# Altium schematic symbol library cSLIM-shield-rescue.SchLib: 27 symbols
Pins are listed as number, name and electrical type; pins without a type are passive.

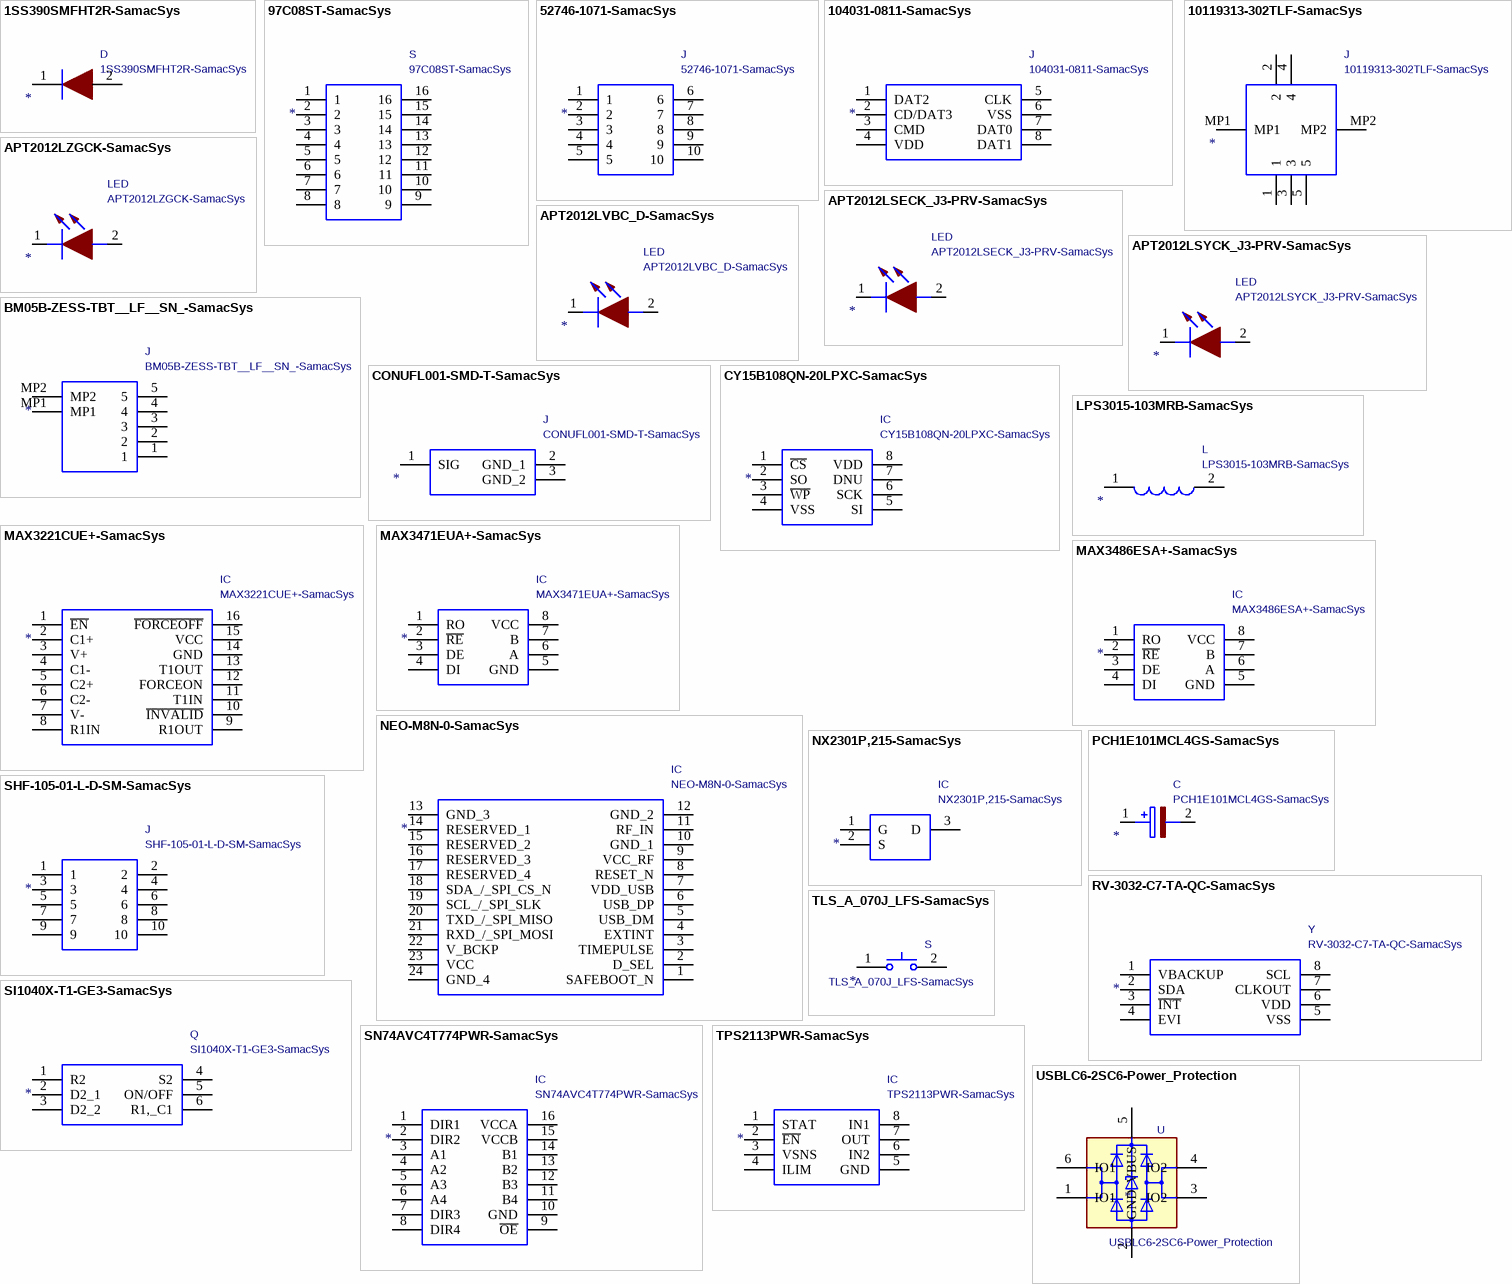
[diagram p0: symbols 1SS390SMFHT2R-SamacSys to USBLC6-2SC6-Power_Protection]

## 1SS390SMFHT2R-SamacSys
designator D  value 1SS390SMFHT2R-SamacSys
Diodes - General Purpose, Power, Switching Band Switching Diode EMD2; Manufacturer_Name: ROHM Semiconductor; Manufacturer_Part_Number: 1SS390SMFHT2R; Footprint: SODFL1608X70N; Supplier: https://componentsearchengine.com/Datasheets/2/1SS390SMFHT2R.pdf; Description_: Diodes - General Purpose, Power, Switching Band Switching Diode EMD2; Height: 0.7; Mouser Part Number: 755-1SS390SMFHT2R; Mouser Price/Stock: https://www.mouser.co.uk/ProductDetail/ROHM-Semiconductor/1SS390SMFHT2R?qs=0lSvoLzn4L%2FO2HkvK5CJsQ%3D%3D
footprint SODFL1608X70N
pins: 1, 2

## 97C08ST-SamacSys
designator S  value 97C08ST-SamacSys
8 Way Surface Mount Slide Switch SPST; Manufacturer_Name: Grayhill; Manufacturer_Part_Number: 97C08ST; Footprint: SOIC127P671X170-16N; Supplier: http://www.grayhill.com/search/?Keywords=97C08ST; Description_: 8 Way Surface Mount Slide Switch SPST; Height: 1.7; Mouser Part Number: 706-97C08ST; Mouser Price/Stock: https://www.mouser.co.uk/ProductDetail/Grayhill/97C08ST?qs=ls7QRyWmRk6QAl4Hs3wGtw%3D%3D
footprint SOIC127P671X170-16N
pins: 1, 2, 3, 4, 5, 6, 7, 8, 9, 10, 11, 12, 13, 14, 15, 16

## 52746-1071-SamacSys
designator J  value 52746-1071-SamacSys
0.5 FPC ZIF Housing Assembly RA 10w Molex FFC/FPC SMT Series 0.5mm Pitch 10 Way 1 Row Right Angle SMT Female FPC Connector; Manufacturer_Part_Number: 52746-1071; Footprint: 52746-1071; Supplier: http://www.molex.com/pdm_docs/sd/527461071_sd.pdf; Description_: 0.5 FPC ZIF Housing Assembly RA 10w Molex FFC/FPC SMT Series 0.5mm Pitch 10 Way 1 Row Right Angle SMT Female FPC Connector; Mouser Part Number: 538-52746-1071; Mouser Price/Stock: https://www.mouser.co.uk/ProductDetail/Molex/52746-1071?qs=gi08C7HaimYPHJccIEZoxg%3D%3D; Manufacturer_Name: Molex
footprint 52746-1071
pins: 1, 2, 3, 4, 5, 6, 7, 8, 9, 10

## 104031-0811-SamacSys
designator J  value 104031-0811-SamacSys
microSD 1.10mm SMT push-pull memory card microSD 1.10mm SMT push-pull memory card; Manufacturer_Name: Molex; Manufacturer_Part_Number: 104031-0811; Footprint: 1040310811; Supplier: http://www.molex.com/webdocs/datasheets/pdf/en-us/1040310811_MEMORY_CARD_SOCKET.pdf; Description_: microSD 1.10mm SMT push-pull memory card microSD 1.10mm SMT push-pull memory card; Mouser Part Number: 538-104031-0811; Mouser Price/Stock: https://www.mouser.co.uk/ProductDetail/Molex/104031-0811?qs=udsGRKD4nA3Tvy7wqky%252BuA%3D%3D
footprint 1040310811
pins: 1 DAT2, 2 CD/DAT3, 3 CMD, 4 VDD, 5 CLK, 6 VSS, 7 DAT0, 8 DAT1

## 10119313-302TLF-SamacSys
designator J  value 10119313-302TLF-SamacSys
USB Connectors 10119313-302TLF-MINI USB 6PF VERTICAL TY; Manufacturer_Name: Amphenol; Footprint: 10119313302TLF; Supplier: https://www.arrow.com/en/products/10119313-302tlf/amphenol-fci; Description_: USB Connectors 10119313-302TLF-MINI USB 6PF VERTICAL TY; Height: 9.55; Mouser Part Number: 649-10119313-302TLF; Mouser Price/Stock: https://www.mouser.co.uk/ProductDetail/Amphenol-FCI/10119313-302TLF/?qs=QcFhgjUTvvpTzLjwlVEXAA%3D%3D; Manufacturer_Part_Number: 10119313-302TLF
footprint 10119313302TLF
pins: 1, 2, 3, 4, 5, MP1, MP2

## APT2012LSECK_J3-PRV-SamacSys
designator LED  value APT2012LSECK_J3-PRV-SamacSys
Standard LEDs - SMD 2.0X1.2MM LOW CRNT; Manufacturer_Name: Kingbright; Manufacturer_Part_Number: APT2012LSECK/J3-PRV; Footprint: LEDC2012X75N; Supplier: http://www.kingbrightusa.com/images/catalog/SPEC/APT2012LSECK-J3-PRV.pdf; Description_: Standard LEDs - SMD 2.0X1.2MM LOW CRNT; Height: 0.75; Mouser Part Number: 604-APT2012LSECKJ3RV; Mouser Price/Stock: https://www.mouser.co.uk/ProductDetail/Kingbright/APT2012LSECK-J3-PRV?qs=6oMev5NRZMEkGJkKIsAalQ%3D%3D
footprint LEDC2012X75N
pins: 1, 2

## APT2012LSYCK_J3-PRV-SamacSys
designator LED  value APT2012LSYCK_J3-PRV-SamacSys
Standard LEDs - SMD 2.0X1.2MM LOW CRNT; Manufacturer_Name: Kingbright; Manufacturer_Part_Number: APT2012LSYCK/J3-PRV; Footprint: LEDC2012X85N; Supplier: http://www.kingbrightusa.com/images/catalog/SPEC/APT2012LSYCK-J3-PRV.pdf; Description_: Standard LEDs - SMD 2.0X1.2MM LOW CRNT; Height: 0.85; Mouser Part Number: 604-APT2012LSYCKJ3RV; Mouser Price/Stock: https://www.mouser.co.uk/ProductDetail/Kingbright/APT2012LSYCK-J3-PRV?qs=6oMev5NRZMGoWLCc4feqUg%3D%3D
footprint LEDC2012X85N
pins: 1, 2

## APT2012LVBC_D-SamacSys
designator LED  value APT2012LVBC_D-SamacSys
Standard LEDs - SMD 2.0X1.2MM LOW CRNT; Manufacturer_Name: Kingbright; Manufacturer_Part_Number: APT2012LVBC/D; Footprint: LEDC2012X85N; Supplier: https://componentsearchengine.com/Datasheets/1/APT2012LVBC_D.pdf; Description_: Standard LEDs - SMD 2.0X1.2MM LOW CRNT; Height: 0.85; Mouser Part Number: 604-APT2012LVBCD; Mouser Price/Stock: https://www.mouser.co.uk/ProductDetail/Kingbright/APT2012LVBC-D?qs=6oMev5NRZMGErJYT6KZLXg%3D%3D
footprint LEDC2012X85N
pins: 1, 2

## APT2012LZGCK-SamacSys
designator LED  value APT2012LZGCK-SamacSys
Standard LEDs - SMD 2.0X1.2MM LOW CRNT; Manufacturer_Name: Kingbright; Manufacturer_Part_Number: APT2012LZGCK; Footprint: LEDC2012X85N; Supplier: http://www.kingbrightusa.com/images/catalog/SPEC/APT2012LZGCK.pdf; Description_: Standard LEDs - SMD 2.0X1.2MM LOW CRNT; Height: 0.85; Mouser Part Number: 604-APT2012LZGCK; Mouser Price/Stock: https://www.mouser.co.uk/ProductDetail/Kingbright/APT2012LZGCK?qs=6oMev5NRZMHOosFiXb%2F3qw%3D%3D
footprint LEDC2012X85N
pins: 1, 2

## BM05B-ZESS-TBT__LF__SN_-SamacSys
designator J  value BM05B-ZESS-TBT__LF__SN_-SamacSys
ZE-1.5mm SMT taped 5way Header+suction JST ZE Series, Series Number BM0B, 1.5mm Pitch 5 Way 1 Row Shrouded Straight PCB Header, Surface Mount; Manufacturer_Name: JST (JAPAN SOLDERLESS TERMINALS); Manufacturer_Part_Number: BM05B-ZESS-TBT (LF)(SN); Footprint: BM05BZESSTBTLFSN; Supplier: https://www.arrow.com/en/products/bm05b-zess-tbt-lf-sn/jst-manufacturing; Description_: ZE-1.5mm SMT taped 5way Header+suction JST ZE Series, Series Number BM0B, 1.5mm Pitch 5 Way 1 Row Shrouded Straight PCB Header, Surface Mount; Height: 7.5; Arrow Part Number: BM05B-ZESS-TBT (LF)(SN); Arrow Price/Stock: https://www.arrow.com/en/products/bm05b-zess-tbt-lf-sn/jst-manufacturing
footprint BM05BZESSTBTLFSN
pins: 1, 2, 3, 4, 5, MP1, MP2

## CONUFL001-SMD-T-SamacSys
designator J  value CONUFL001-SMD-T-SamacSys
RF Connectors / Coaxial Connectors T&R U.FL Straight Surface Mount Jack; Manufacturer_Name: Linx Technologies; Manufacturer_Part_Number: CONUFL001-SMD-T; Footprint: CONUFL001-SMD; Supplier: https://linxtechnologies.com/wp/product/mhf-rf-connectors/; Description_: RF Connectors / Coaxial Connectors T&R U.FL Straight Surface Mount Jack; Mouser Part Number: 712-CONUFL001-SMD-T; Mouser Price/Stock: https://www.mouser.co.uk/ProductDetail/Linx-Technologies/CONUFL001-SMD-T?qs=EU6FO9ffTwfRdkBeQTdJWQ%3D%3D
footprint CONUFL001-SMD
pins: 1 SIG, 2 GND_1, 3 GND_2

## CY15B108QN-20LPXC-SamacSys
designator IC  value CY15B108QN-20LPXC-SamacSys
Cypress Semiconductor, CY15B108QN-20LPXC; Footprint: SON65P323X328X55-8N; Supplier: https://www.arrow.com/en/products/cy15b108qn-20lpxc/cypress-semiconductor; Description_: Cypress Semiconductor, CY15B108QN-20LPXC; Height: 0.55; Mouser Part Number: 727-CY15B108QN20LPXC; Mouser Price/Stock: https://www.mouser.co.uk/ProductDetail/Cypress-Semiconductor/CY15B108QN-20LPXC?qs=P1JMDcb91o5srFPNWUxrEA%3D%3D; Manufacturer_Name: Cypress Semiconductor; Manufacturer_Part_Number: CY15B108QN-20LPXC
footprint SON65P323X328X55-8N
pins: 1 ~{CS}, 2 SO, 3 ~{WP}, 4 VSS, 5 SI, 6 SCK, 7 DNU, 8 VDD

## LPS3015-103MRB-SamacSys
designator L  value LPS3015-103MRB-SamacSys
COILCRAFT - LPS3015-103MRB - INDUCTOR, SHLD, 10UH, 20%, 0.55A, SMD; Footprint: LPS3015; Supplier: https://www.coilcraft.com/pdfs/lps3015.pdf; Description_: COILCRAFT - LPS3015-103MRB - INDUCTOR, SHLD, 10UH, 20%, 0.55A, SMD; Mouser Part Number: 994-LPS3015-103MRB; Mouser Price/Stock: https://www.mouser.co.uk/ProductDetail/Coilcraft/LPS3015-103MRB?qs=QQJxVsr8EGaKHQsQv461ew%3D%3D; Manufacturer_Name: COILCRAFT; Manufacturer_Part_Number: LPS3015-103MRB
footprint LPS3015
pins: 1, 2

## MAX3221CUE+-SamacSys
designator IC  value MAX3221CUE+-SamacSys
MAX3221CUE+, Line Transceiver 1 1 1 235 kbit/s, 3  5.5 V, 16-Pin TSSOP; Manufacturer_Name: Maxim Integrated; Footprint: SOP65P640X110-16N; Supplier: http://datasheets.maximintegrated.com/en/ds/MAX3221-MAX3243.pdf; Description_: MAX3221CUE+, Line Transceiver 1 1 1 235 kbit/s, 3  5.5 V, 16-Pin TSSOP; Height: 1.1; Mouser Part Number: 700-MAX3221CUE; Mouser Price/Stock: https://www.mouser.co.uk/ProductDetail/Maxim-Integrated/MAX3221CUE%2b?qs=1THa7WoU59EZwCeWs5OtSQ%3D%3D; Manufacturer_Part_Number: MAX3221CUE+
footprint SOP65P640X110-16N
pins: 1 ~{EN}, 2 C1+, 3 V+, 4 C1-, 5 C2+, 6 C2-, 7 V-, 8 R1IN, 9 R1OUT, 10 ~{INVALID}, 11 T1IN, 12 FORCEON, 13 T1OUT, 14 GND, 15 VCC, 16 ~{FORCEOFF}

## MAX3471EUA+-SamacSys
designator IC  value MAX3471EUA+-SamacSys
Single Transmitter/Receiver RS-422/485; Manufacturer_Name: Maxim Integrated; Manufacturer_Part_Number: MAX3471EUA+; Footprint: SOP65P490X110-8N; Description_: Single Transmitter/Receiver RS-422/485; Height: 1.1; Mouser Part Number: 700-MAX3471EUA; Mouser Price/Stock: https://www.mouser.co.uk/ProductDetail/Maxim-Integrated/MAX3471EUA%2b?qs=1THa7WoU59GPWTW%252BBV1kJA%3D%3D
footprint SOP65P490X110-8N
pins: 1 RO, 2 ~{RE}, 3 DE, 4 DI, 5 GND, 6 A, 7 B, 8 VCC

## MAX3486ESA+-SamacSys
designator IC  value MAX3486ESA+-SamacSys
MAX3486ESA+, Line Transceiver, RS-485, RS-422 2.5Mbit/s Differential, 3.3 V, 8-Pin SOIC; Manufacturer_Name: Maxim Integrated; Footprint: SOIC127P600X175-8N; Supplier: http://datasheets.maximintegrated.com/en/ds/MAX3483-MAX3491.pdf; Description_: MAX3486ESA+, Line Transceiver, RS-485, RS-422 2.5Mbit/s Differential, 3.3 V, 8-Pin SOIC; Height: 1.75; Mouser Part Number: 700-MAX3486ESA; Mouser Price/Stock: https://www.mouser.co.uk/ProductDetail/Maxim-Integrated/MAX3486ESA%2b?qs=1THa7WoU59FIrgcgBLF9fg%3D%3D; Manufacturer_Part_Number: MAX3486ESA+
footprint SOIC127P600X175-8N
pins: 1 RO, 2 ~{RE}, 3 DE, 4 DI, 5 GND, 6 A, 7 B, 8 VCC

## NEO-M8N-0-SamacSys
designator IC  value NEO-M8N-0-SamacSys
IC RECEIVER GPS/GNSS 24LCC; Manufacturer_Name: U-Blox; Manufacturer_Part_Number: NEO-M8N-0; Footprint: NEO-M8T; Supplier: https://www.u-blox.com/sites/default/files/NEO-M8-FW3_DataSheet_%28UBX-15031086%29.pdf; Description_: IC RECEIVER GPS/GNSS 24LCC; Mouser Part Number: 377-NEO-M8N-0; Mouser Price/Stock: https://www.mouser.co.uk/ProductDetail/u-blox/NEO-M8N-0?qs=zW32dvEIR3unZhZI0KRbew%3D%3D
footprint NEO-M8T
pins: 1 SAFEBOOT_N, 2 D_SEL, 3 TIMEPULSE, 4 EXTINT, 5 USB_DM, 6 USB_DP, 7 VDD_USB, 8 RESET_N, 9 VCC_RF, 10 GND_1, 11 RF_IN, 12 GND_2, 13 GND_3, 14 RESERVED_1, 15 RESERVED_2, 16 RESERVED_3, 17 RESERVED_4, 18 SDA_/_SPI_CS_N, 19 SCL_/_SPI_SLK, 20 TXD_/_SPI_MISO, 21 RXD_/_SPI_MOSI, 22 V_BCKP, 23 VCC, 24 GND_4

## NX2301P,215-SamacSys
designator IC  value NX2301P,215-SamacSys
MOSFET P-CH -20 V -2 A; Manufacturer_Name: Nexperia; Manufacturer_Part_Number: NX2301P,215; Footprint: SOT95P230X110-3N; Supplier: http://www.nxp.com/documents/data_sheet/NX2301P.pdf; Description_: MOSFET P-CH -20 V -2 A; Height: 1.1; Mouser Part Number: 771-NX2301P215; Mouser Price/Stock: https://www.mouser.co.uk/ProductDetail/Nexperia/NX2301P215?qs=A1cBxND5mHKs%252BLrxCDENxw%3D%3D
footprint SOT95P230X110-3N
pins: 1 G, 2 S, 3 D

## PCH1E101MCL4GS-SamacSys
designator C  value PCH1E101MCL4GS-SamacSys
Aluminum Organic Polymer Capacitors 100UF     25V ESR=27; Manufacturer_Name: Nichicon; Manufacturer_Part_Number: PCH1E101MCL4GS; Footprint: CAPAE660X840N; Supplier: https://componentsearchengine.com/Datasheets/2/PCH1E101MCL4GS.pdf; Description_: Aluminum Organic Polymer Capacitors 100UF     25V ESR=27; Height: 8.4; Mouser Part Number: 647-PCH1E101MCL4GS; Mouser Price/Stock: https://www.mouser.co.uk/ProductDetail/Nichicon/PCH1E101MCL4GS?qs=vmHwEFxEFR%252Bar6ugXaASOA%3D%3D
footprint CAPAE660X840N
pins: 1, 2

## RV-3032-C7-TA-QC-SamacSys
designator Y  value RV-3032-C7-TA-QC-SamacSys
RV-3032-C7, Real-Time Clock, IC-bus, 3ppm @ 25C -40 to +85C     (SMD 3.2 x 1.5 x 0.8); Manufacturer_Name: Micro Crystal AG; Manufacturer_Part_Number: RV-3032-C7-TA-QC; Footprint: RV3032C7TAQA; Supplier: https://www.microcrystal.com/fileadmin/Media/Products/RTC/Datasheet/RV-3032-C7.pdf; Description_: RV-3032-C7, Real-Time Clock, IC-bus, 3ppm @ 25C -40 to +85C     (SMD 3.2 x 1.5 x 0.8); Height: 0.8
footprint RV3032C7TAQA
pins: 1 VBACKUP, 2 SDA, 3 ~{INT}, 4 EVI, 5 VSS, 6 VDD, 7 CLKOUT, 8 SCL

## SHF-105-01-L-D-SM-SamacSys
designator J  value SHF-105-01-L-D-SM-SamacSys
10 Position, Dual - Row, Shrouded Terminal Strip, 0.050&quot; pitch; Manufacturer_Name: SAMTEC; Manufacturer_Part_Number: SHF-105-01-L-D-SM; Footprint: SHF-105-01-X-D-SM; Supplier: http://suddendocs.samtec.com/prints/shf-1xx-01-x-d-xx-xx-mkt.pdf; Description_: 10 Position, Dual - Row, Shrouded Terminal Strip, 0.050&quot; pitch; Mouser Part Number: 200-SHF10501LDSM; Mouser Price/Stock: https://www.mouser.co.uk/ProductDetail/Samtec/SHF-105-01-L-D-SM/?qs=92ilVni64gzDB%252BvALG5zyg%3D%3D
footprint SHF-105-01-X-D-SM
pins: 1, 2, 3, 4, 5, 6, 7, 8, 9, 10

## SI1040X-T1-GE3-SamacSys
designator Q  value SI1040X-T1-GE3-SamacSys
MOSFET -8V Vds V Vgs SC89-6; Manufacturer_Name: Vishay; Manufacturer_Part_Number: SI1040X-T1-GE3; Footprint: SOTFL50P160X60-6N; Supplier: https://www.vishay.com/docs/71809/si1040x.pdf; Description_: MOSFET -8V Vds V Vgs SC89-6; Height: 0.6; Mouser Part Number: 781-SI1040X-T1-GE3; Mouser Price/Stock: https://www.mouser.co.uk/ProductDetail/Vishay-Semiconductors/SI1040X-T1-GE3?qs=tWM4QuTcS4WRJw%2FdSgdX6Q%3D%3D
footprint SOTFL50P160X60-6N
pins: 1 R2, 2 D2_1, 3 D2_2, 4 S2, 5 ON/OFF, 6 R1,_C1

## SN74AVC4T774PWR-SamacSys
designator IC  value SN74AVC4T774PWR-SamacSys
4-Bit Dual-Supply Bus Transceiver With Configurable Voltage-Level Shifting and 3-State Outputs; Manufacturer_Name: Texas Instruments; Manufacturer_Part_Number: SN74AVC4T774PWR; Footprint: SOP65P640X120-16N; Supplier: http://www.ti.com/lit/gpn/sn74avc4t774; Description_: 4-Bit Dual-Supply Bus Transceiver With Configurable Voltage-Level Shifting and 3-State Outputs; Height: 1.2; Mouser Part Number: 595-SN74AVC4T774PWR; Mouser Price/Stock: https://www.mouser.co.uk/ProductDetail/Texas-Instruments/SN74AVC4T774PWR?qs=WxL8HmPi5r562Eu%2F2kE2LA%3D%3D
footprint SOP65P640X120-16N
pins: 1 DIR1, 2 DIR2, 3 A1, 4 A2, 5 A3, 6 A4, 7 DIR3, 8 DIR4, 9 ~{OE}, 10 GND, 11 B4, 12 B3, 13 B2, 14 B1, 15 VCCB, 16 VCCA

## TLS_A_070J_LFS-SamacSys
designator S  value TLS_A_070J_LFS-SamacSys
Tactile Switches Top actuated tact, 0.9 mm travel, 7 N, 50% Tactile, J Leads, SMT, 8.6 x 8.4 x 3.95 mm, Soft Actuator; Manufacturer_Name: C & K COMPONENTS; Manufacturer_Part_Number: TLS A 070J LFS; Footprint: TLSA070JLFS; Supplier: https://www.mouser.ph/datasheet/2/60/tls-1846606.pdf; Description_: Tactile Switches Top actuated tact, 0.9 mm travel, 7 N, 50% Tactile, J Leads, SMT, 8.6 x 8.4 x 3.95 mm, Soft Actuator; Mouser Part Number: 611-TLSA070JLFS; Mouser Price/Stock: https://www.mouser.co.uk/ProductDetail/CK/TLS-A-070J-LFS?qs=GedFDFLaBXEdAqJ422mDcw%3D%3D
footprint TLSA070JLFS
pins: 1, 2

## TPS2113PWR-SamacSys
designator IC  value TPS2113PWR-SamacSys
Dual In/Single Out Autoswitching Power MUX, Auto Sw, Adj. Cur Limit, Adj. Vol Threshold, Sw Status; Manufacturer_Name: Texas Instruments; Manufacturer_Part_Number: TPS2113PWR; Footprint: SOP65P640X120-8N; Supplier: http://www.ti.com/lit/ds/symlink/tps2113.pdf; Description_: Dual In/Single Out Autoswitching Power MUX, Auto Sw, Adj. Cur Limit, Adj. Vol Threshold, Sw Status; Height: 1.2; Mouser Part Number: 595-TPS2113PWR; Mouser Price/Stock: https://www.mouser.co.uk/ProductDetail/Texas-Instruments/TPS2113PWR?qs=ojKcPFmCWSUJzuMPtPVtlA%3D%3D
footprint SOP65P640X120-8N
pins: 1 STAT, 2 ~{EN}, 3 VSNS, 4 ILIM, 5 GND, 6 IN2, 7 OUT, 8 IN1

## USBLC6-2SC6-Power_Protection
designator U  value USBLC6-2SC6-Power_Protection
Footprint: Package_TO_SOT_SMD:SOT-23-6
footprint SOT-23-6
pins: 1 IO1, 2 GND, 3 IO2, 4 IO2, 5 VBUS, 6 IO1

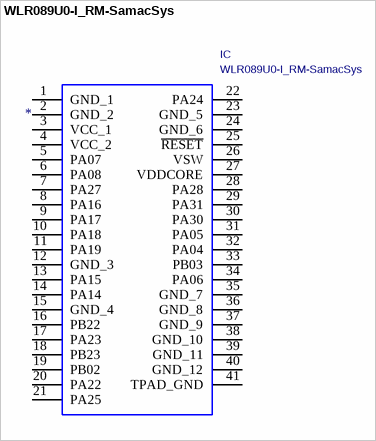
[diagram p1: symbol WLR089U0-I_RM-SamacSys]

## WLR089U0-I_RM-SamacSys
designator IC  value WLR089U0-I_RM-SamacSys
RF Modules Ultra-low power Long range LoRa module (863-928 MHz); Manufacturer_Name: Microchip; Manufacturer_Part_Number: WLR089U0-I/RM; Footprint: WLR089U0IRM; Supplier: https://ww1.microchip.com/downloads/en/DeviceDoc/WLR089U0-Low-Power-LoRa-Sub-GHz-Module-Data-Sheet-DS70005435A.pdf; Description_: RF Modules Ultra-low power Long range LoRa module (863-928 MHz); Height: 2.8; Mouser Part Number: 579-WLR089U0-I/RM; Mouser Price/Stock: https://www.mouser.co.uk/ProductDetail/Microchip-Technology/WLR089U0-I-RM/?qs=W%2FMpXkg%252BdQ4sfSMsQUYuNg%3D%3D
footprint WLR089U0IRM
pins: 1 GND_1, 2 GND_2, 3 VCC_1, 4 VCC_2, 5 PA07, 6 PA08, 7 PA27, 8 PA16, 9 PA17, 10 PA18, 11 PA19, 12 GND_3, 13 PA15, 14 PA14, 15 GND_4, 16 PB22, 17 PA23, 18 PB23, 19 PB02, 20 PA22, 21 PA25, 22 PA24, 23 GND_5, 24 GND_6, 25 ~{RESET}, 26 VSW, 27 VDDCORE, 28 PA28, 29 PA31, 30 PA30, 31 PA05, 32 PA04, 33 PB03, 34 PA06, 35 GND_7, 36 GND_8, 37 GND_9, 38 GND_10, 39 GND_11, 40 GND_12, 41 TPAD_GND